# Altium footprint library AUVic_Schematic_library_Gate_Drivers.PcbLib: 2 footprints
Each footprint in its own frame and in the unit in brackets; x right, y up, seen from the top. Pads: shape width x height; smd on the part's side, far side on the other; paste and mask are expansions set on the pad; w line width, h text height; cw(c..) or ccw(c..) is an arc to the next point about the centre after c.
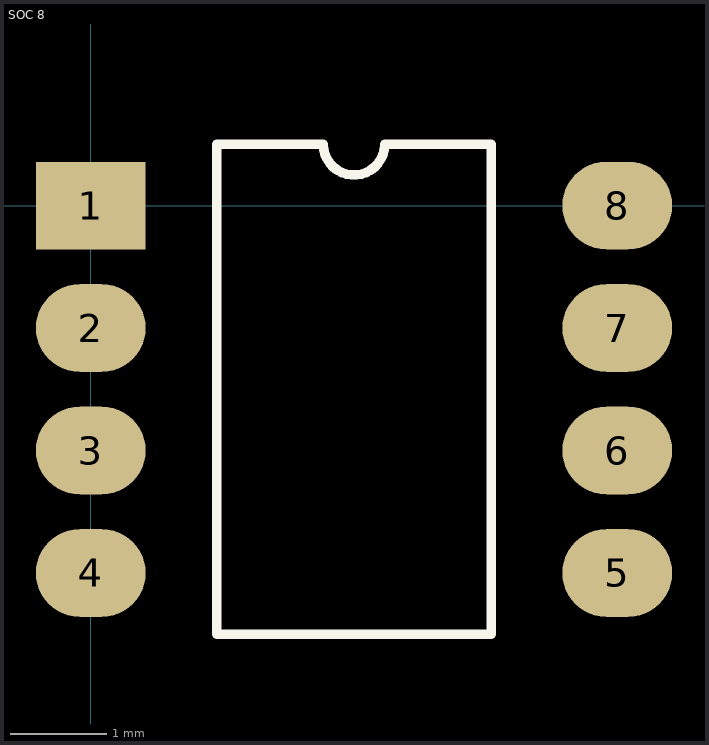
[diagram p0: the footprints below, top view; thin cyan lines are the x and y axes]

## PCBComponent_1 [mil]

## SOC 8 [mm]
pads (8):
  rect 1.14x0.91 smd: 1(0,0)
  oval 1.14x0.91 smd: 2(0,-1.27) 3(0,-2.54) 4(0,-3.81) 5(5.46,-3.81) 6(5.46,-2.54) 7(5.46,-1.27) 8(5.46,0)
Top Overlay:
  lines w0.1: 1.305,-4.445 1.305,0.635 2.412,0.635 ccw(c2.73,0.635) 3.047,0.635 4.155,0.635 4.155,-4.445 1.305,-4.445
3D body "User Library-SOIC-8-1.step": height 1.75, standoff 0, extent -0.333,-4.318 5.667,0.582